# Altium schematic symbol library INSTR_AMP.SchLib: 1 symbol
Pins are listed as number, name and electrical type; pins without a type are passive.

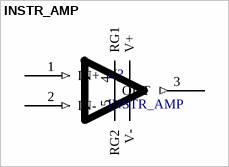
[diagram p0: symbol INSTR_AMP]

## INSTR_AMP
designator U?
Instrumentation amplifier
pins: 1 IN+ (in), 2 IN- (in), 3 OUT (out), 4 RG1, 5 RG2, 6 V+ (power), 7 V- (power)